# EAGLE library part VIPER06HS (library SmartHome_Switch_Parts)
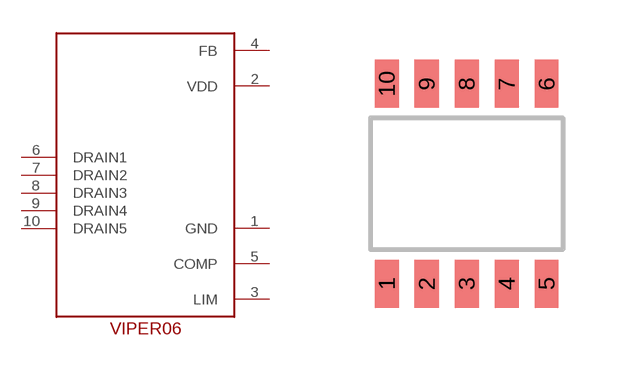
[diagram p0: symbol with the pads of SSO10; footprint SSO10]

Designator prefix IC

## VIPER06HS  [SSO10]
1  GND
2  VDD
3  LIM
4  FB  in
5  COMP
6  DRAIN1
7  DRAIN2
8  DRAIN3
9  DRAIN4
10  DRAIN5

## Footprint SSO10 (pad centres in mm)
smd 0.6 x 1.2: 1 -2,-2.5; 2 -1,-2.5; 3 0,-2.5; 4 1,-2.5; 5 2,-2.5; 6 2,2.5; 7 1,2.5; 8 0,2.5; 9 -1,2.5; 10 -2,2.5